# Altium footprint library AVR SMD SOLDERING.PcbLib: 26 footprints (part 2 of 2)
Each footprint in its own frame and in the unit in brackets; x right, y up, seen from the top. Pads: shape width x height; smd on the part's side, far side on the other; paste and mask are expansions set on the pad; w line width, h text height; cw(c..) or ccw(c..) is an arc to the next point about the centre after c.
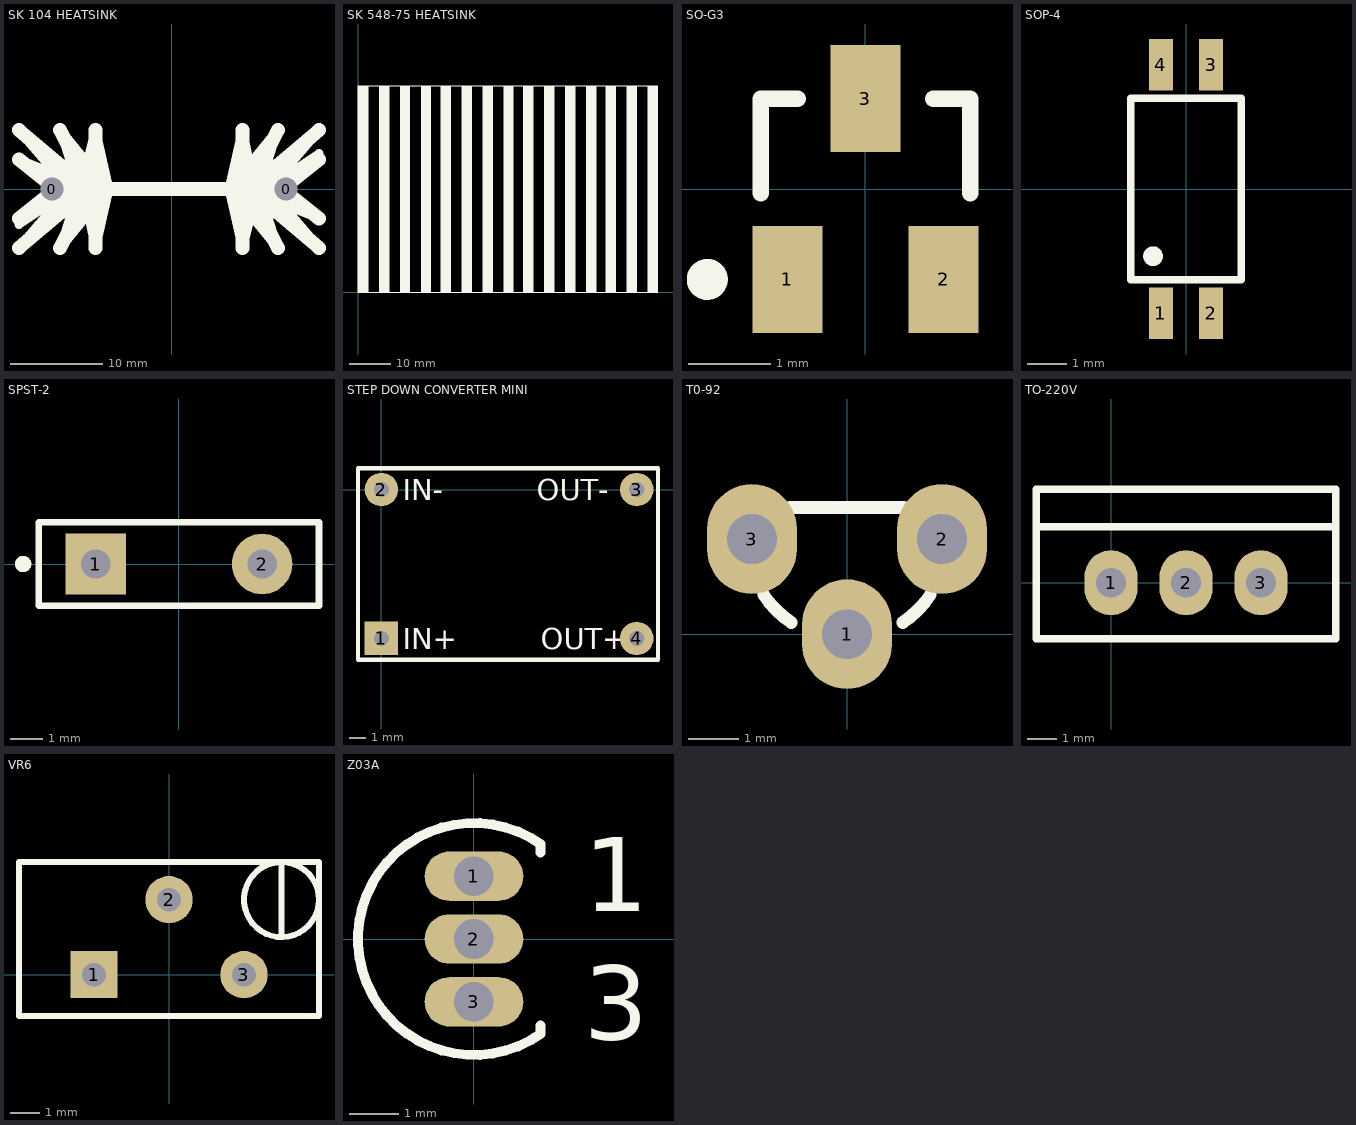
[diagram p1: the footprints below, top view; thin cyan lines are the x and y axes]

## SK 104 HEATSINK [mm]
pads (2):
  round 2 hole 2.5: 0(-12.954,0) 0(12.319,0)
Top Overlay:
  rectangle: -13.335,-3.175 -8.255,3.175
  region: 12.7,3.175 7.62,3.175 7.62,-3.175 12.7,-3.175
  lines w0.5: -12.065,6.35 -9.525,3.175 ; -8.89,3.175 -8.255,6.35 ; 7.62,-6.35 8.255,-3.175 ; 8.89,-3.175 11.43,-6.35
  lines w1: -16.51,-6.35 -12.7,-1.905 ; -16.51,-3.81 -12.7,-1.27 ; -16.51,3.175 -13.335,1.905 ; -16.51,6.35 -12.7,1.905 ; -10.795,2.54 -12.065,6.35 -8.89,2.54 ; -8.89,-3.175 -8.255,-6.35 -6.985,-0.635 ; -8.89,-2.54 -12.065,-6.35 ; -8.89,3.81 -8.255,6.35 -6.985,0.635 ; 6.35,-0.635 7.62,-6.35 8.255,-3.81 ; 6.35,0.635 7.62,6.35 8.255,3.175 ; 8.255,-2.54 11.43,-6.35 10.16,-2.54 ; 8.255,2.54 11.43,6.35 ; 12.065,-1.905 15.875,-6.35 ; 12.065,1.27 15.875,3.81 ; 12.065,1.905 15.875,6.35 ; 12.7,-1.905 15.875,-3.175 ; -12.065,-6.35 -10.795,-2.54 -12.065,-6.35 ; 11.43,6.35 10.16,2.54 11.43,6.35
  lines w1.5: -16.51,-6.35 -12.065,-2.54 ; -16.51,-3.175 -13.335,-0.635 ; -16.51,3.175 -13.335,0.635 ; -16.51,6.35 -12.065,2.54 ; -12.065,-6.35 -10.16,-2.54 ; -12.065,6.35 -10.16,2.54 ; -11.43,0 12.065,0 ; -8.255,-6.35 -8.255,0 -8.255,6.35 ; 7.62,-6.35 7.62,0 7.62,6.35 ; 9.525,-2.54 11.43,-6.35 ; 9.525,2.54 11.43,6.35 ; 11.43,-2.54 15.875,-6.35 ; 11.43,2.54 15.875,6.35 ; 12.7,-0.635 15.875,-3.175 ; 12.7,0.635 15.875,3.175

## SK 548-75 HEATSINK [mm]
Top Overlay:
  rectangle: 0,0 2.5,49.847
  rectangle: 5.08,0 7.58,49.847
  rectangle: 15.24,0 17.74,49.847
  rectangle: 10.16,0 12.66,49.847
  rectangle: 30.162,0 32.663,49.847
  rectangle: 35.242,0 37.743,49.847
  rectangle: 25.082,0 27.583,49.847
  rectangle: 20.002,0 22.503,49.847
  rectangle: 50.165,0 52.665,49.847
  rectangle: 55.245,0 57.745,49.847
  rectangle: 45.085,0 47.585,49.847
  rectangle: 40.005,0 42.505,49.847
  rectangle: 70.168,0 72.668,49.847
  rectangle: 65.087,0 67.588,49.847
  rectangle: 60.008,0 62.508,49.847
  lines w0.254: 2.5,0 2.5,49.847 ; 0,0 72.707,0 72.707,50 0,50 0,0

## SO-G3 [mm]
pads (3):
  rect 0.85x1.3 smd: 1(-0.95,-1.1) 2(0.95,-1.1) 3(0,1.1)
Top Overlay:
  circle w0.25: c-1.925,-1.1 r0.125
  lines w0.2: -1.275,-0.05 -1.275,1.1 -0.825,1.1 ; 0.825,1.1 1.275,1.1 1.275,-0.05

## SOP-4 [mm]
pads (4):
  rect 0.6x1.3 smd: 1(-0.635,-3.15) 2(0.635,-3.15) 3(0.635,3.15) 4(-0.635,3.15)
Top Overlay:
  circle w0.25: c-0.836,-1.702 r0.125
  lines w0.2: -1.4,-2.3 -1.4,2.3 1.4,2.3 1.4,-2.3 -1.4,-2.3

## SPST-2 [mm] "Circuit Breaker; 2 Leads"
pads (2):
  rect 1.85x1.85 hole 0.9: 1(-2.54,0)
  round 1.85 hole 0.9: 2(2.54,0)
Top Overlay:
  circle w0.25: c-4.761,-0.001 r0.125
  lines w0.2: -4.28,-1.27 4.28,-1.27 4.28,1.27 -4.28,1.27 -4.28,-1.27

## STEP DOWN CONVERTER MINI [mm]
pads (4):
  rect 2x2 hole 0.9: 1(0,-8.89)
  round 2 hole 0.9: 2(0,0) 3(15.24,0) 4(15.24,-8.89)
Top Overlay:
  lines w0.254: -1.397,-10.16 16.51,-10.16 16.51,1.27 -1.397,1.27 -1.397,-10.16
  text "IN+" at 1.27,-9.525 h1.27
  text "IN-" at 1.27,-0.635 h1.27
  text "OUT+" at 9.525,-9.525 h1.27
  text "OUT-" at 9.271,-0.635 h1.27

## T0-92 [mm] "TO - 92 PACK"
pads (3):
  oval 1.8x2.2 hole 1: 1(0,0) 2(1.905,1.905) 3(-1.905,1.905)
Top Overlay:
  lines w0.254: -1.671,0.791 ccw(c0,1.905) -1.114,0.234 ; -1.143,2.54 1.143,2.54 ; 1.114,0.234 ccw(c0,1.905) 1.671,0.791

## TO-220V [mm]
pads (3):
  oval 1.8x2.2 hole 1: 1(0,0) 2(2.54,0) 3(5.08,0)
Top Overlay:
  lines w0.254: -2.54,1.905 7.62,1.905 ; 7.62,1.905 7.62,3.175 -2.54,3.175 -2.54,-1.905 7.62,-1.905 7.62,1.905

## VR6 [mm]
pads (3):
  rect 1.6x1.6 hole 0.8: 1(-2.54,0)
  round 1.6 hole 0.8: 2(0,2.54) 3(2.54,0)
Top Overlay:
  circle w0.2: c3.81,2.54 r1.27
  lines w0.2: 3.81,1.27 3.81,3.81 ; -5.08,-1.397 5.08,-1.397 5.08,0 5.08,3.81 -5.08,3.81 -5.08,-1.397

## Z03A [mm] "TO, Flat Index; 3 In-Line, Axial Leads; Body Dia. 4.6mm; Leads 0.53 x 0.39 mm (max)"
pads (3):
  oval 2x1 hole 0.8: 1(0,1.27) 2(0,0) 3(0,-1.27)
Top Overlay:
  lines w0.2: 1.35,-1.75 1.35,-1.92 cw(c0,0) 1.35,1.92 1.35,1.75
  text "1" at 2.224,0.56 h1.5
  text "3" at 2.224,-2.035 h1.5